# EAGLE library part M25P32-VME6G (library ICs)
FLASH, 32MBIT, 75MHZ, 8VDFPN
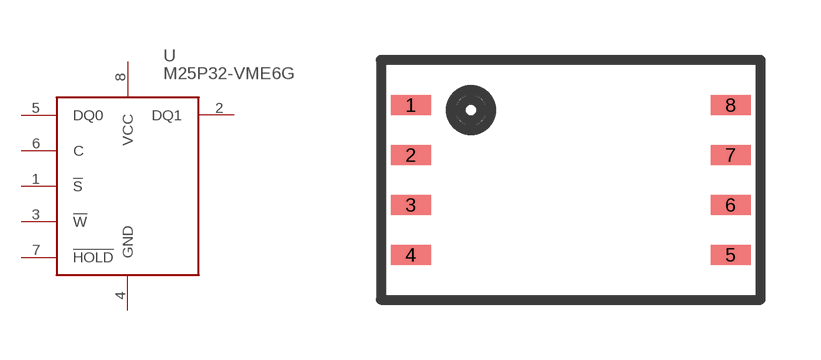
[diagram p87: symbol with the pads of MLP8; footprint MLP8]

Designator prefix U

## M25P32-VME6G (FARNELL: 1099666; PRICE_PER: 1.1726; VALUE: M25P32)  [MLP8]
1  !S
2  DQ1
3  !W
4  GND
5  DQ0
6  C
7  !HOLD
8  VCC

## Footprint MLP8 (pad centres in mm)
smd 1 x 0.5: 1 -4,1.875; 2 -4,0.625; 3 -4,-0.625; 4 -4,-1.875; 5 4,-1.875; 6 4,-0.625; 7 4,0.625; 8 4,1.875